# Altium footprint library PcbLib1.PcbLib: 17 footprints (part 2 of 2)
Each footprint in its own frame and in the unit in brackets; x right, y up, seen from the top. Pads: shape width x height; smd on the part's side, far side on the other; paste and mask are expansions set on the pad; w line width, h text height; cw(c..) or ccw(c..) is an arc to the next point about the centre after c.
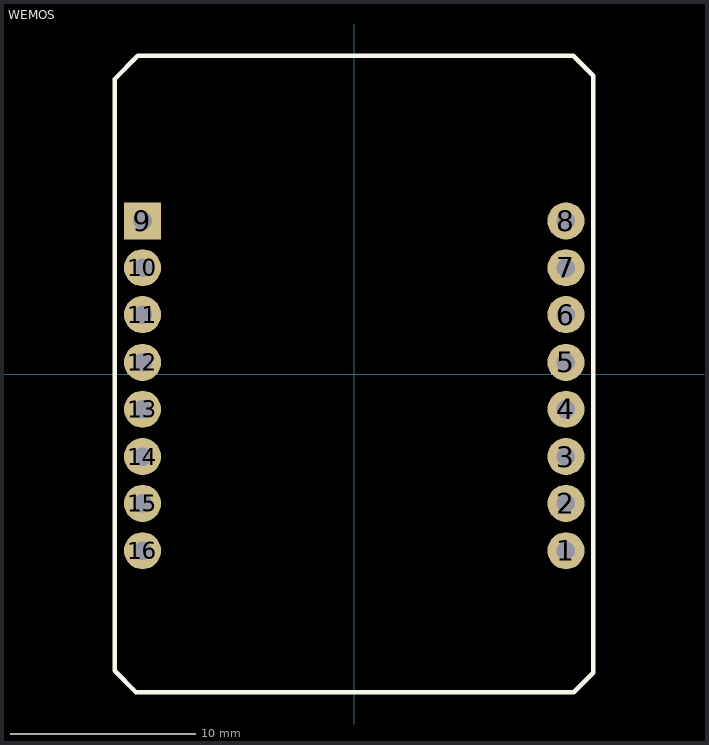
[diagram p1: the footprint, top view; thin cyan lines are the x and y axes]

## WEMOS [mm]
pads (16):
  round 2 hole 1: 1(11.425,-9.525) 2(11.425,-6.975) 3(11.425,-4.45) 4(11.425,-1.9) 5(11.425,0.625) 6(11.425,3.2) 7(11.425,5.725) 8(11.425,8.25) 10(-11.4,5.725) 11(-11.4,3.2) 12(-11.4,0.625) 13(-11.4,-1.9) 14(-11.4,-4.45) 15(-11.4,-6.975) 16(-11.4,-9.525)
  rect 2x2 hole 1: 9(-11.4,8.25)
Top Overlay:
  lines w0.254: -12.9,-16 -11.75,-17.15 11.85,-17.15 12.9,-16.1 12.9,16.075 11.825,17.15 -11.65,17.15 -12.9,15.9 -12.9,-16
3D body "wemos-mini-d1.stp": height 12.94, standoff -2, extent -12.9,-17.15 12.9,17.15